# Altium schematic symbol library MCP3564-E_ST.SchLib: 1 symbol
Pins are listed as number, name and electrical type; pins without a type are passive.

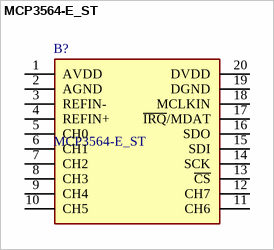
[diagram p0: symbol MCP3564-E_ST]

## MCP3564-E_ST
designator B?
Analog to Digital Converters - ADC; Manufacturer_Name: Microchip; Manufacturer_Part_Number: MCP3564-E/ST; Geometry.Height: 1.2mm; Mouser Part Number: 579-MCP3564-E/ST; Mouser Price/Stock: https://www.mouser.co.uk/ProductDetail/Microchip-Technology/MCP3564-E-ST?qs=xZ%2FP%252Ba9zWqaBYjkYebfRjg%3D%3D; Datasheet Link: https://www.arrow.com/en/products/mcp3564-est/microchip-technology
footprint SOP65P640X120-20N
pins: 1 AVDD, 2 AGND, 3 REFIN-, 4 REFIN+, 5 CH0, 6 CH1, 7 CH2, 8 CH3, 9 CH4, 10 CH5, 11 CH6, 12 CH7, 13 ~{CS}, 14 SCK, 15 SDI, 16 SDO, 17 ~{IRQ}/MDAT, 18 MCLKIN, 19 DGND, 20 DVDD